# EAGLE library part SHT31-DIS (library FCC_parts)
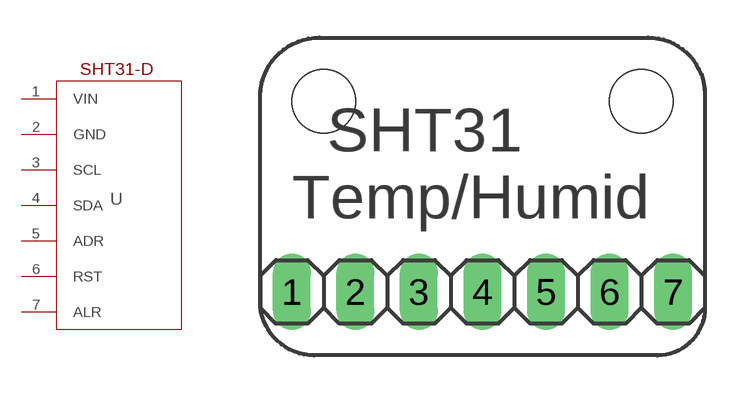
[diagram p5: symbol with the pads of 1X07-SHT31-DIS; footprint 1X07-SHT31-DIS]

Designator prefix -

## SHT31-DIS  [1X07-SHT31-DIS]
1  VIN
2  GND
3  SCL
4  SDA
5  ADR
6  RST
7  ALR

## Footprint 1X07-SHT31-DIS (pad centres in mm)
PIN HEADER
drill 1.016 long: 1 -7.62,0; 2 -5.08,0; 3 -2.54,0; 4 0,0; 5 2.54,0; 6 5.08,0; 7 7.62,0
hole 2.54 at -6.35,7.62
hole 2.54 at 6.35,7.62